# Altium footprint library 曾宪阳PCB库.PcbLib: 142 footprints (part 4 of 9)
Each footprint in its own frame and in the unit in brackets; x right, y up, seen from the top. Pads: shape width x height; smd on the part's side, far side on the other; paste and mask are expansions set on the pad; w line width, h text height; cw(c..) or ccw(c..) is an arc to the next point about the centre after c.
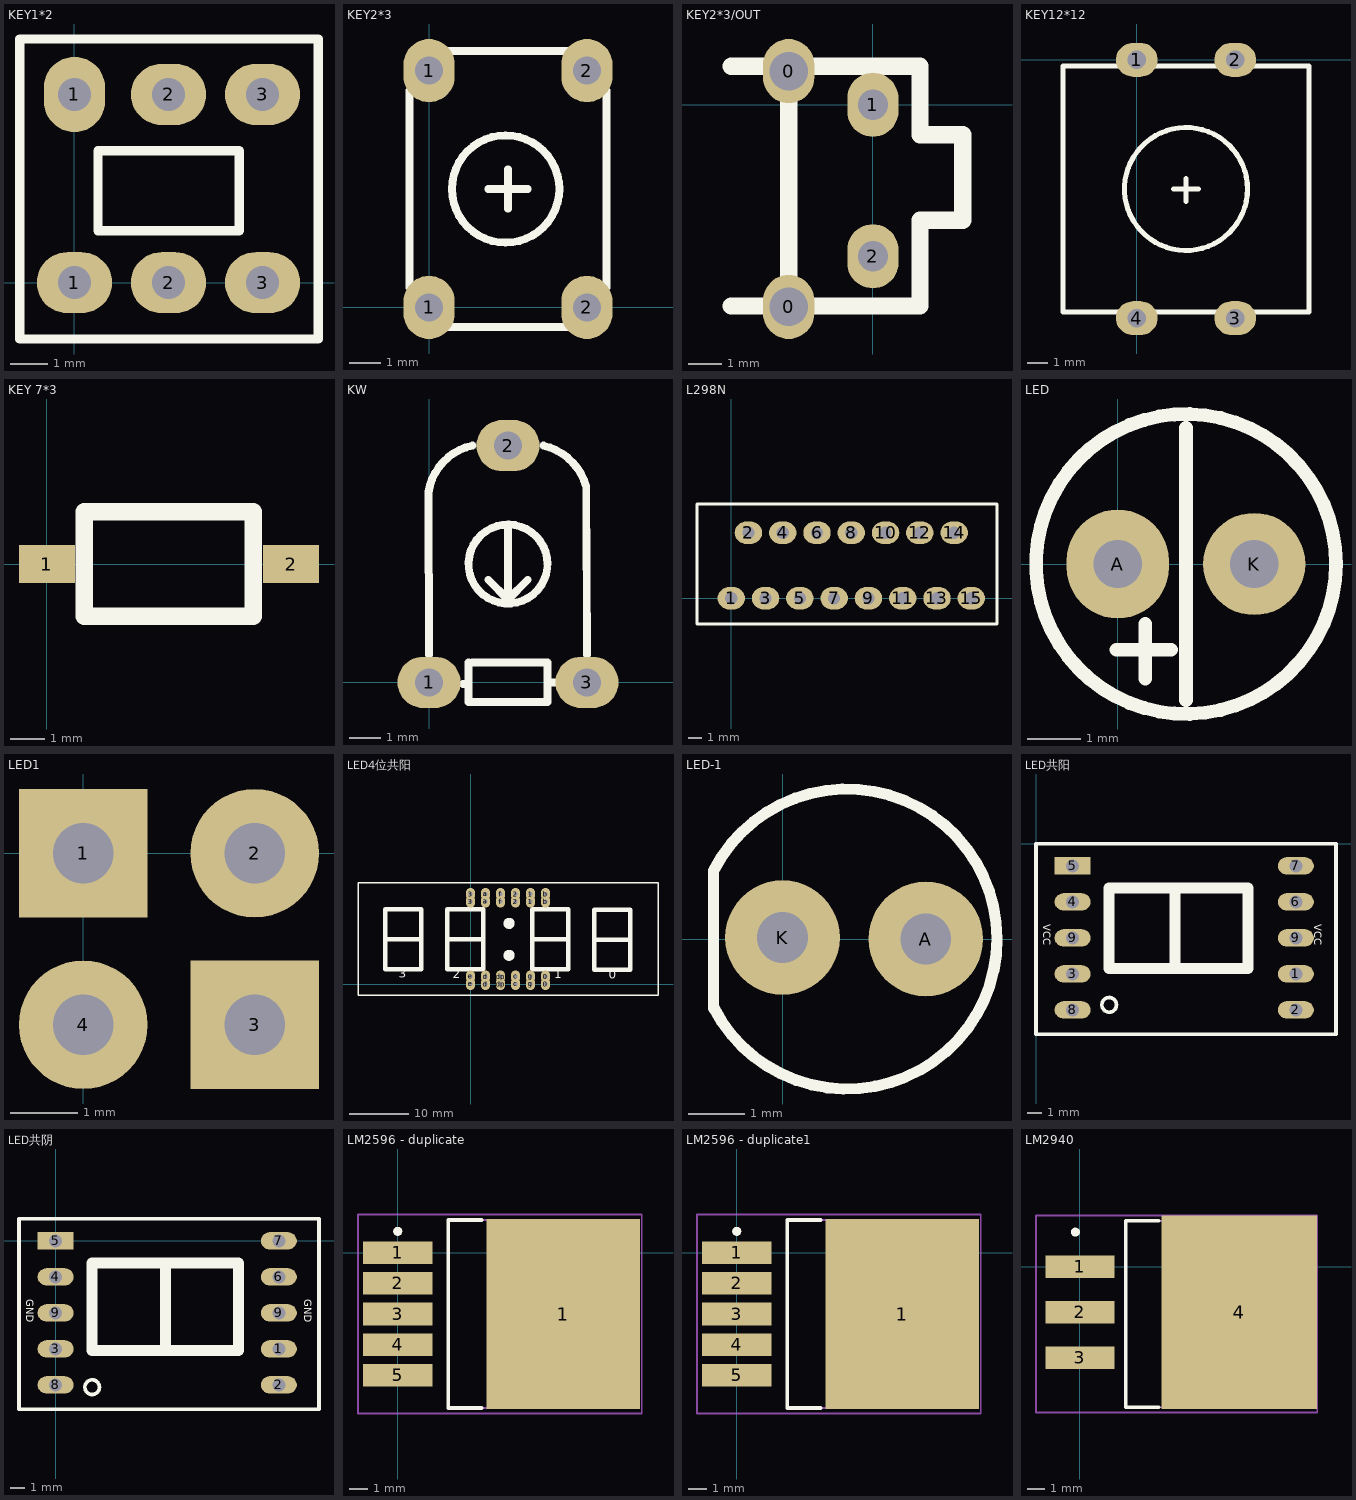
[diagram p3: the footprints below, top view; thin cyan lines are the x and y axes]

## KEY1*2 [mil]
pads (6):
  oval 80x65 hole 35.43: 1(0,0) 2(100,0) 2(100,200) 3(200,0) 3(200,200)
  oval 65x80 hole 35.43: 1(0,200)
Top Overlay:
  lines w10: -58,-60 -58,259 259,259 259,-60 -58,-60 ; 25,55 175,55 175,140 25,140 25,55

## KEY2*3 [mil]
pads (4):
  oval 65x80 hole 35.43: 1(0,0) 1(0,300) 2(200,0) 2(200,300)
Top Overlay:
  circle w10: c97,150 r68
  lines w10: -25,25 -25,275 ; 25,-25 175,-25 ; 25,325 175,325 ; 75,150 125,150 ; 100,125 100,175 ; 209,289 210,290 ; 225,25 225,275

## KEY2*3/OUT [mm]
pads (4):
  oval 1.524x1.905 hole 1.143: 0(-2.5,-6) 0(-2.5,1)
  oval 1.524x1.905 hole 0.9: 1(0,0) 2(0,-4.5)
Top Overlay:
  lines w0.508: -4.206,-5.969 1.397,-5.969 1.397,-3.429 2.667,-3.429 2.667,-0.889 ; -4.206,1.143 1.397,1.143 ; -2.5,-6 -2.5,1 ; 1.397,1.016 1.397,-0.889 2.54,-0.889

## KEY12*12 [mil]
pads (4):
  oval 80x65 hole 35.43: 1(0,0) 2(188.98,0) 3(188.98,-496.06) 4(0,-496.06)
Top Overlay:
  circle w9.84: c94.49,-248.03 r118.11
  lines w9.84: 70.87,-248.03 118.11,-248.03 ; 94.49,-271.65 94.49,-228.35 ; -141.73,-484.25 330.71,-484.25 330.71,-11.81 -141.73,-11.81 -141.73,-484.25

## KEY 7*3 [mm]
pads (2):
  rect 1.6x1.1 smd: 1(0,0) 2(7,0)
Top Overlay:
  lines w0.508: 1.067,-1.5 5.918,-1.5 5.918,1.5 1.067,1.5 1.067,-1.5

## KW [mil]
pads (3):
  oval 80x65 hole 35.43: 1(0,0) 2(100,300) 3(200,0)
Top Overlay:
  lines w10: 0,35 -0.76,240.89 cw(c70,230) 55,300 ; 43,-2 48,-2 ; 50,25 50,-25 150,-25 150,25 55,25 ; 75,130 100,105 ; 100,200 100,105 ; 125,130 100,105 ; 145,300 cw(c127.5,227.5) 199.12,248.29 200,35 ; 149.75,145.02 cw(c100,150) 150,150 ; 150,0 160,0

## L298N [mil]
pads (15):
  oval 80x65 hole 35.43: 1(0,0) 2(50,191.14) 3(100,0) 4(150,191.14) 5(200,0) 6(250,191.14) 7(300,0) 8(350,191.14) 9(400,0) 10(450,191.14) 11(500,0) 12(550,191.14) 13(600,0) 14(650,191.14) 15(700,0)
Top Overlay:
  lines w10: -100,-75 -65,-75 775,-75 775,275 -100,275 -100,-75

## LED [mm]
pads (2):
  oval 1.905x2.032 hole 0.9: A(0,0)
  round 1.905 hole 0.9: K(2.54,0)
Top Overlay:
  circle w0.254: c1.27,0 r2.794
  lines w0.254: -0.025,-1.6 0.991,-1.6 ; 0.508,-2.134 0.508,-1.118 ; 1.27,-2.54 1.27,2.54 ; 1.27,1.778 1.27,2.032

## LED1 [mm]
pads (4):
  rect 1.905x1.905 hole 0.9: 1(0,0) 3(2.54,-2.54)
  round 1.905 hole 0.9: 2(2.54,0) 4(0,-2.54)

## LED4位共阳 [mil]
pads (24):
  oval 60x80 hole 28: 0(500,0) 0(500,50) 1(400,550) 1(400,600) 2(300,550) 2(300,600) 3(0,550) 3(0,600) a(100,550) a(100,600) b(500,550) b(500,600) c(300,0) c(300,50) d(100,0) d(100,50) dp(200,0) dp(200,50) e(0,0) e(0,50) f(200,550) f(200,600) g(400,0) g(400,50)
Top Overlay:
  circle w40: c256.97,404 r17.03
  circle w40: c256.97,191 r17.03
  lines w9.84: -750,-76 1250,-76 1250,676 -750,676 -750,-76
  lines w30: -568,297 -328,297 ; -154,300 86,300 ; 411,300 651,300 ; 825,294 1065,294 ; -568,97 -568,497 -328,497 -328,97 -568,97 ; -154,100 -154,500 86,500 86,100 -154,100 ; 411,100 411,500 651,500 651,100 411,100 ; 825,94 825,494 1065,494 1065,94 825,94
  text "0" at 920,15 h100
  text "1" at 558,17 h100
  text "2" at -120,18 h100
  text "3" at -477,22 h100

## LED-1 [mil]
pads (2):
  round 80 hole 35.43: A(100,0) K(0,1)
Top Overlay:
  lines w7.87: -48.22,-48.24 -48.22,47.64 cw(c45,0) -47.91,-48.24

## LED共阳 [mm]
pads (10):
  oval 2.5x1.2 hole 0.9: 1(18.04,-9.024) 2(18.04,-11.524) 3(2.54,-9.024) 4(2.54,-4.024) 6(18.04,-4.024) 7(18.04,-1.524) 8(2.54,-11.524) 9(2.54,-6.524) 9(18.04,-6.524)
  rect 2.5x1.2 hole 0.9: 5(2.54,-1.524)
Top Overlay:
  circle w0.254: c5.08,-11.176 r0.508
  lines w0.254: 0,-13.208 0,0 20.828,0 20.828,-13.208 0,-13.208
  lines w0.762: 6.096,-3.048 14.732,-3.048 14.732,-8.636 5.08,-8.636 5.08,-3.048 6.604,-3.048 ; 9.652,-8.636 9.652,-3.048
  text "VCC" at 19.304,-5.588 h0.51
  text "VCC" at 0.508,-5.588 h0.51

## LED共阴 [mm]
pads (10):
  oval 2.5x1.2 hole 0.9: 1(15.5,-7.5) 2(15.5,-10) 3(0,-7.5) 4(0,-2.5) 6(15.5,-2.5) 7(15.5,0) 8(0,-10) 9(0,-5) 9(15.5,-5)
  rect 2.5x1.2 hole 0.9: 5(0,0)
Top Overlay:
  circle w0.254: c2.54,-10.16 r0.508
  lines w0.254: -2.54,-11.684 18.288,-11.684 18.288,1.524 -2.54,1.524 -2.54,-11.684
  lines w0.762: 7.62,-7.62 7.62,-1.524 ; 2.54,-7.62 2.54,-1.524 12.7,-1.524 12.7,-7.62 2.54,-7.62
  text "GND" at -2.032,-4.064 h0.51
  text "GND" at 17.272,-4.064 h0.51

## LM2596 - duplicate [mm] "TO, 6-Pads, Body 8.9x10.4mm (max), IPC Medium Density"
height 4.65
pads (6):
  rect 3.85x1.25 smd: 1(0,0) 2(0,-1.7) 3(0,-3.4) 4(0,-5.1) 5(0,-6.8)
  rect 8.5x10.5 smd: 1(9.15,-3.4)
Top Overlay:
  circle w0.25: c0,1.175 r0.125
  lines w0.2: 4.65,-8.6 2.8,-8.6 2.8,1.8 4.65,1.8
Mechanical 13:
  lines w0.1: 2.8,-8.6 2.8,1.8 11.69,1.8 11.69,-8.6 2.8,-8.6
Mechanical 15:
  lines w0.1: 5.15,-3.4 6.15,-3.4 ; 5.65,-3.9 5.65,-2.9 ; -2.2,-8.9 -2.2,2.1 13.5,2.1 13.5,-8.9 -2.2,-8.9
3D body: height 4.65, standoff 0.1, extent 2.8,-8.6 11.69,1.8

## LM2596 - duplicate1 [mm] "TO, 6-Pads, Body 8.9x10.4mm (max), IPC Medium Density"
height 4.65
pads (6):
  rect 3.85x1.25 smd: 1(0,0) 2(0,-1.7) 3(0,-3.4) 4(0,-5.1) 5(0,-6.8)
  rect 8.5x10.5 smd: 1(9.15,-3.4)
Top Overlay:
  circle w0.25: c0,1.175 r0.125
  lines w0.2: 4.65,-8.6 2.8,-8.6 2.8,1.8 4.65,1.8
Mechanical 13:
  lines w0.1: 2.8,-8.6 2.8,1.8 11.69,1.8 11.69,-8.6 2.8,-8.6
Mechanical 15:
  lines w0.1: 5.15,-3.4 6.15,-3.4 ; 5.65,-3.9 5.65,-2.9 ; -2.2,-8.9 -2.2,2.1 13.5,2.1 13.5,-8.9 -2.2,-8.9
3D body: height 4.65, standoff 0.1, extent 2.8,-8.6 11.69,1.8

## LM2940 [mm]
pads (4):
  rect 3.85x1.25 smd: 1(0,0) 2(0,-2.54) 3(0,-5.08)
  rect 8.7x10.8 smd: 4(8.896,-2.536)
Top Overlay:
  circle w0.25: c-0.254,1.937 r0.125
  lines w0.2: 4.396,-7.838 2.546,-7.838 2.546,2.562 4.396,2.562
Mechanical 13:
  lines w0.1: 2.546,-7.838 2.546,2.562 11.436,2.562 11.436,-7.838 2.546,-7.838
Mechanical 15:
  lines w0.1: 4.896,-2.638 5.896,-2.638 ; 5.396,-3.138 5.396,-2.138 ; -2.454,-8.138 -2.454,2.862 13.246,2.862 13.246,-8.138 -2.454,-8.138